# Altium footprint library BMP180.PcbLib: 1 footprints
Each footprint in its own frame and in the unit in brackets; x right, y up, seen from the top. Pads: shape width x height; smd on the part's side, far side on the other; paste and mask are expansions set on the pad; w line width, h text height; cw(c..) or ccw(c..) is an arc to the next point about the centre after c.
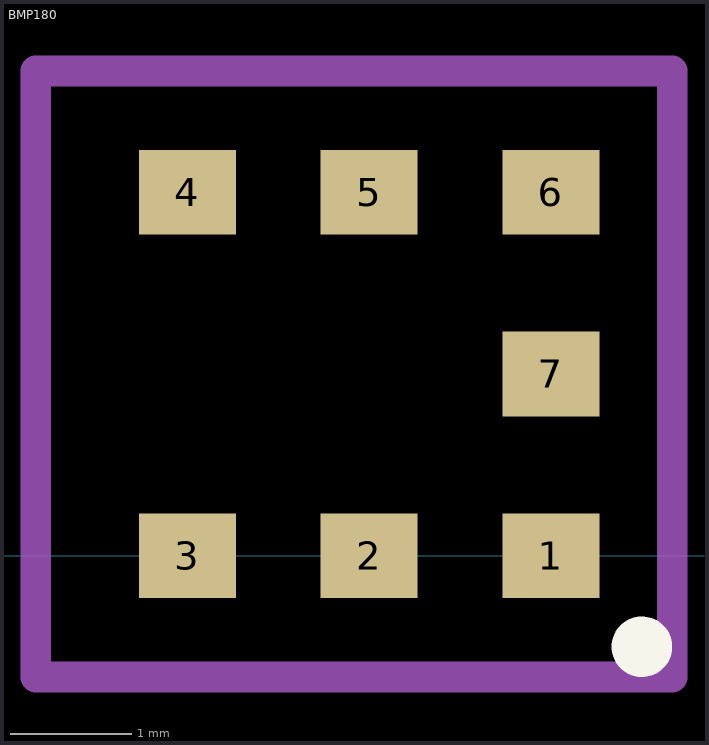
[diagram p0: the footprint, top view; thin cyan lines are the x and y axes]

## BMP180 [mm] "CQFP, 4-Leads, Body 33,53x33,53mm, Pitch 1,50mm, IPC Medium Density"
height 3.1
pads (7):
  rect 0.8x0.7 smd: 1(-16.25,0) 2(-17.75,0) 3(-19.25,0) 4(-19.25,3) 5(-17.75,3) 6(-16.25,3) 7(-16.25,1.5)
Top Overlay:
  circle w0.25: c-15.5,-0.75 r0.125
Mechanical 15:
  lines w0.254: -20.5,-1 -20.5,4 -15.25,4 -15.25,-1 -20.5,-1